# Altium footprint library Headers.PcbLib: 91 footprints (part 2 of 6)
Each footprint in its own frame and in the unit in brackets; x right, y up, seen from the top. Pads: shape width x height; smd on the part's side, far side on the other; paste and mask are expansions set on the pad; w line width, h text height; cw(c..) or ccw(c..) is an arc to the next point about the centre after c.
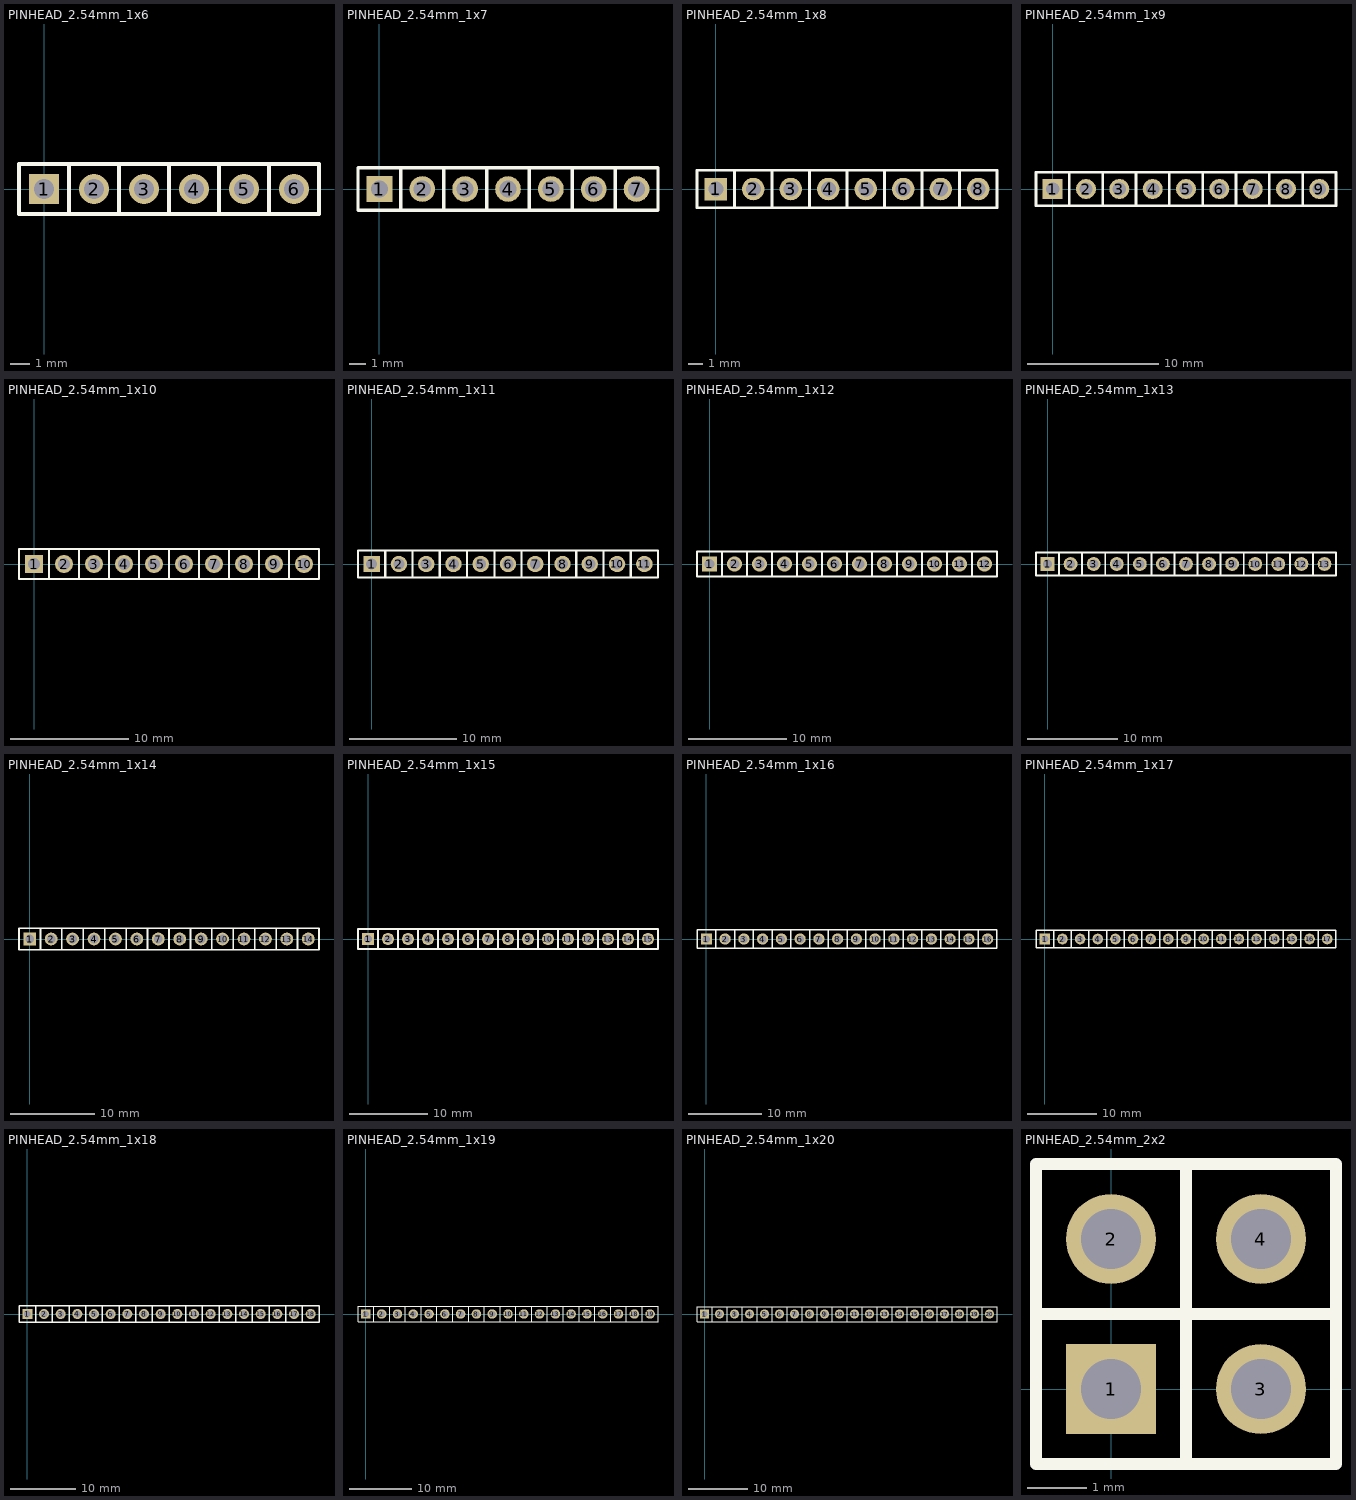
[diagram p1: the footprints below, top view; thin cyan lines are the x and y axes]

## PINHEAD_2.54mm_1x6 [mil]
pads (6):
  rect 60x60 hole 40: 1(0,0)
  round 60 hole 40: 2(100,0) 3(200,0) 4(300,0) 5(400,0) 6(500,0)
Top Overlay:
  lines w7.87: 50,-50 -50,-50 -50,50 50,50 ; 50,-50 50,50 ; 50,-50 50,50 ; 50,-50 150,-50 ; 50,50 150,50 ; 150,-50 150,50 ; 150,-50 250,-50 ; 150,-50 150,50 ; 150,50 250,50 ; 250,-50 250,50 ; 250,-50 250,50 ; 250,-50 350,-50 ; 250,50 350,50 ; 350,-50 350,50 ; 350,-50 450,-50 ; 350,-50 350,50 ; 350,50 450,50 ; 450,-50 450,50 ; 450,-50 450,50 ; 450,-50 550,-50 550,50 450,50
3D body "User Library-HDR1X1 Rectangular Straight.step": height 339.58, standoff -124.98, extent -53.14,-53.15 53.16,53.15
3D body "User Library-HDR1X1 Rectangular Straight.step": height 339.58, standoff -124.98, extent 46.86,-53.14 153.16,53.16
3D body "User Library-HDR1X1 Rectangular Straight.step": height 339.58, standoff -124.98, extent 146.86,-53.15 253.16,53.15
3D body "User Library-HDR1X1 Rectangular Straight.step": height 339.58, standoff -124.98, extent 246.86,-53.14 353.16,53.16
3D body "User Library-HDR1X1 Rectangular Straight.step": height 339.58, standoff -124.98, extent 346.86,-53.15 453.16,53.15
3D body "User Library-HDR1X1 Rectangular Straight.step": height 339.58, standoff -124.98, extent 446.86,-53.14 553.16,53.16

## PINHEAD_2.54mm_1x7 [mil]
pads (7):
  rect 60x60 hole 40: 1(0,0)
  round 60 hole 40: 2(100,0) 3(200,0) 4(300,0) 5(400,0) 6(500,0) 7(600,0)
Top Overlay:
  lines w7.87: 50,-50 -50,-50 -50,50 50,50 ; 50,-50 50,50 ; 50,-50 50,50 ; 50,-50 150,-50 ; 50,50 150,50 ; 150,-50 150,50 ; 150,-50 250,-50 ; 150,-50 150,50 ; 150,50 250,50 ; 250,-50 250,50 ; 250,-50 250,50 ; 250,-50 350,-50 ; 250,50 350,50 ; 350,-50 350,50 ; 350,-50 450,-50 ; 350,-50 350,50 ; 350,50 450,50 ; 450,-50 450,50 ; 450,-50 450,50 ; 450,-50 550,-50 ; 450,50 550,50 ; 550,-50 650,-50 650,50 550,50 ; 550,-50 550,50 ; 550,-50 550,50
3D body "User Library-HDR1X1 Rectangular Straight.step": height 339.58, standoff -124.98, extent 546.86,-53.15 653.16,53.15
3D body "User Library-HDR1X1 Rectangular Straight.step": height 339.58, standoff -124.98, extent -53.14,-53.15 53.16,53.15
3D body "User Library-HDR1X1 Rectangular Straight.step": height 339.58, standoff -124.98, extent 46.86,-53.14 153.16,53.16
3D body "User Library-HDR1X1 Rectangular Straight.step": height 339.58, standoff -124.98, extent 146.86,-53.15 253.16,53.15
3D body "User Library-HDR1X1 Rectangular Straight.step": height 339.58, standoff -124.98, extent 246.86,-53.14 353.16,53.16
3D body "User Library-HDR1X1 Rectangular Straight.step": height 339.58, standoff -124.98, extent 346.86,-53.15 453.16,53.15
3D body "User Library-HDR1X1 Rectangular Straight.step": height 339.58, standoff -124.98, extent 446.86,-53.14 553.16,53.16

## PINHEAD_2.54mm_1x8 [mil]
pads (8):
  rect 60x60 hole 40: 1(0,0)
  round 60 hole 40: 2(100,0) 3(200,0) 4(300,0) 5(400,0) 6(500,0) 7(600,0) 8(700,0)
Top Overlay:
  lines w7.87: 50,-50 150,-50 ; 50,-50 50,50 ; 50,-50 50,50 ; 50,-50 -50,-50 -50,50 50,50 ; 50,50 150,50 ; 150,-50 150,50 ; 150,-50 250,-50 ; 150,-50 150,50 ; 150,50 250,50 ; 250,-50 350,-50 ; 250,-50 250,50 ; 250,-50 250,50 ; 250,50 350,50 ; 350,-50 350,50 ; 350,-50 450,-50 ; 350,-50 350,50 ; 350,50 450,50 ; 450,-50 550,-50 ; 450,-50 450,50 ; 450,-50 450,50 ; 450,50 550,50 ; 550,-50 550,50 ; 550,-50 650,-50 ; 550,-50 550,50 ; 550,50 650,50 ; 650,-50 750,-50 750,50 650,50 ; 650,-50 650,50 ; 650,-50 650,50
3D body "User Library-HDR1X1 Rectangular Straight.step": height 339.58, standoff -124.98, extent 646.86,-53.14 753.16,53.16
3D body "User Library-HDR1X1 Rectangular Straight.step": height 339.58, standoff -124.98, extent 546.86,-53.15 653.16,53.15
3D body "User Library-HDR1X1 Rectangular Straight.step": height 339.58, standoff -124.98, extent 446.86,-53.14 553.16,53.16
3D body "User Library-HDR1X1 Rectangular Straight.step": height 339.58, standoff -124.98, extent 346.86,-53.15 453.16,53.15
3D body "User Library-HDR1X1 Rectangular Straight.step": height 339.58, standoff -124.98, extent 246.86,-53.14 353.16,53.16
3D body "User Library-HDR1X1 Rectangular Straight.step": height 339.58, standoff -124.98, extent 146.86,-53.15 253.16,53.15
3D body "User Library-HDR1X1 Rectangular Straight.step": height 339.58, standoff -124.98, extent 46.86,-53.14 153.16,53.16
3D body "User Library-HDR1X1 Rectangular Straight.step": height 339.58, standoff -124.98, extent -53.14,-53.15 53.16,53.15

## PINHEAD_2.54mm_1x9 [mil]
pads (9):
  rect 60x60 hole 40: 1(0,0)
  round 60 hole 40: 2(100,0) 3(200,0) 4(300,0) 5(400,0) 6(500,0) 7(600,0) 8(700,0) 9(800,0)
Top Overlay:
  lines w7.87: 50,-50 -50,-50 -50,50 50,50 ; 50,-50 50,50 ; 50,-50 50,50 ; 50,-50 150,-50 ; 50,50 150,50 ; 150,-50 150,50 ; 150,-50 250,-50 ; 150,-50 150,50 ; 150,50 250,50 ; 250,-50 250,50 ; 250,-50 250,50 ; 250,-50 350,-50 ; 250,50 350,50 ; 350,-50 350,50 ; 350,-50 450,-50 ; 350,-50 350,50 ; 350,50 450,50 ; 450,-50 450,50 ; 450,-50 450,50 ; 450,-50 550,-50 ; 450,50 550,50 ; 550,-50 550,50 ; 550,-50 650,-50 ; 550,-50 550,50 ; 550,50 650,50 ; 650,-50 650,50 ; 650,-50 650,50 ; 650,-50 750,-50 ; 650,50 750,50 ; 750,-50 750,50 ; 750,-50 750,50 ; 750,-50 850,-50 850,50 750,50
3D body "User Library-HDR1X1 Rectangular Straight.step": height 339.58, standoff -124.98, extent -53.14,-53.15 53.16,53.15
3D body "User Library-HDR1X1 Rectangular Straight.step": height 339.58, standoff -124.98, extent 46.86,-53.14 153.16,53.16
3D body "User Library-HDR1X1 Rectangular Straight.step": height 339.58, standoff -124.98, extent 146.86,-53.15 253.16,53.15
3D body "User Library-HDR1X1 Rectangular Straight.step": height 339.58, standoff -124.98, extent 246.86,-53.14 353.16,53.16
3D body "User Library-HDR1X1 Rectangular Straight.step": height 339.58, standoff -124.98, extent 346.86,-53.15 453.16,53.15
3D body "User Library-HDR1X1 Rectangular Straight.step": height 339.58, standoff -124.98, extent 446.86,-53.14 553.16,53.16
3D body "User Library-HDR1X1 Rectangular Straight.step": height 339.58, standoff -124.98, extent 546.86,-53.15 653.16,53.15
3D body "User Library-HDR1X1 Rectangular Straight.step": height 339.58, standoff -124.98, extent 646.86,-53.14 753.16,53.16
3D body "User Library-HDR1X1 Rectangular Straight.step": height 339.58, standoff -124.98, extent 746.86,-53.15 853.16,53.15

## PINHEAD_2.54mm_1x10 [mil]
pads (10):
  rect 60x60 hole 40: 1(0,0)
  round 60 hole 40: 2(100,0) 3(200,0) 4(300,0) 5(400,0) 6(500,0) 7(600,0) 8(700,0) 9(800,0) 10(900,0)
Top Overlay:
  lines w7.87: 50,-50 -50,-50 -50,50 50,50 ; 50,-50 50,50 ; 50,-50 50,50 ; 50,-50 150,-50 ; 50,50 150,50 ; 150,-50 150,50 ; 150,-50 250,-50 ; 150,-50 150,50 ; 150,50 250,50 ; 250,-50 250,50 ; 250,-50 250,50 ; 250,-50 350,-50 ; 250,50 350,50 ; 350,-50 350,50 ; 350,-50 450,-50 ; 350,-50 350,50 ; 350,50 450,50 ; 450,-50 450,50 ; 450,-50 450,50 ; 450,-50 550,-50 ; 450,50 550,50 ; 550,-50 550,50 ; 550,-50 650,-50 ; 550,-50 550,50 ; 550,50 650,50 ; 650,-50 650,50 ; 650,-50 650,50 ; 650,-50 750,-50 ; 650,50 750,50 ; 750,-50 750,50 ; 750,-50 850,-50 ; 750,-50 750,50 ; 750,50 850,50 ; 850,-50 850,50 ; 850,-50 850,50 ; 850,-50 950,-50 950,50 850,50
3D body "User Library-HDR1X1 Rectangular Straight.step": height 339.58, standoff -124.98, extent -53.14,-53.15 53.16,53.15
3D body "User Library-HDR1X1 Rectangular Straight.step": height 339.58, standoff -124.98, extent 46.86,-53.14 153.16,53.16
3D body "User Library-HDR1X1 Rectangular Straight.step": height 339.58, standoff -124.98, extent 146.86,-53.15 253.16,53.15
3D body "User Library-HDR1X1 Rectangular Straight.step": height 339.58, standoff -124.98, extent 246.86,-53.14 353.16,53.16
3D body "User Library-HDR1X1 Rectangular Straight.step": height 339.58, standoff -124.98, extent 346.86,-53.15 453.16,53.15
3D body "User Library-HDR1X1 Rectangular Straight.step": height 339.58, standoff -124.98, extent 446.86,-53.14 553.16,53.16
3D body "User Library-HDR1X1 Rectangular Straight.step": height 339.58, standoff -124.98, extent 546.86,-53.15 653.16,53.15
3D body "User Library-HDR1X1 Rectangular Straight.step": height 339.58, standoff -124.98, extent 646.86,-53.14 753.16,53.16
3D body "User Library-HDR1X1 Rectangular Straight.step": height 339.58, standoff -124.98, extent 746.86,-53.15 853.16,53.15
3D body "User Library-HDR1X1 Rectangular Straight.step": height 339.58, standoff -124.98, extent 846.86,-53.14 953.16,53.16

## PINHEAD_2.54mm_1x11 [mil]
pads (11):
  rect 60x60 hole 40: 1(0,0)
  round 60 hole 40: 2(100,0) 3(200,0) 4(300,0) 5(400,0) 6(500,0) 7(600,0) 8(700,0) 9(800,0) 10(900,0) 11(1000,0)
Top Overlay:
  lines w7.87: 50,-50 150,-50 ; 50,-50 50,50 ; 50,-50 50,50 ; 50,-50 -50,-50 -50,50 50,50 ; 50,50 150,50 ; 150,-50 150,50 ; 150,-50 250,-50 ; 150,-50 150,50 ; 150,50 250,50 ; 250,-50 350,-50 ; 250,-50 250,50 ; 250,-50 250,50 ; 250,50 350,50 ; 350,-50 350,50 ; 350,-50 450,-50 ; 350,-50 350,50 ; 350,50 450,50 ; 450,-50 550,-50 ; 450,-50 450,50 ; 450,-50 450,50 ; 450,50 550,50 ; 550,-50 550,50 ; 550,-50 650,-50 ; 550,-50 550,50 ; 550,50 650,50 ; 650,-50 750,-50 ; 650,-50 650,50 ; 650,-50 650,50 ; 650,50 750,50 ; 750,-50 750,50 ; 750,-50 850,-50 ; 750,-50 750,50 ; 750,50 850,50 ; 850,-50 950,-50 ; 850,-50 850,50 ; 850,-50 850,50 ; 850,50 950,50 ; 950,-50 1050,-50 1050,50 950,50 ; 950,-50 950,50 ; 950,-50 950,50
3D body "User Library-HDR1X1 Rectangular Straight.step": height 339.58, standoff -124.98, extent 946.86,-53.15 1053.16,53.15
3D body "User Library-HDR1X1 Rectangular Straight.step": height 339.58, standoff -124.98, extent 846.86,-53.14 953.16,53.16
3D body "User Library-HDR1X1 Rectangular Straight.step": height 339.58, standoff -124.98, extent 746.86,-53.14 853.16,53.16
3D body "User Library-HDR1X1 Rectangular Straight.step": height 339.58, standoff -124.98, extent 646.86,-53.14 753.16,53.16
3D body "User Library-HDR1X1 Rectangular Straight.step": height 339.58, standoff -124.98, extent 546.86,-53.14 653.16,53.16
3D body "User Library-HDR1X1 Rectangular Straight.step": height 339.58, standoff -124.98, extent 446.86,-53.14 553.16,53.16
3D body "User Library-HDR1X1 Rectangular Straight.step": height 339.58, standoff -124.98, extent 346.86,-53.14 453.16,53.16
3D body "User Library-HDR1X1 Rectangular Straight.step": height 339.58, standoff -124.98, extent 246.86,-53.14 353.16,53.16
3D body "User Library-HDR1X1 Rectangular Straight.step": height 339.58, standoff -124.98, extent 146.86,-53.14 253.16,53.16
3D body "User Library-HDR1X1 Rectangular Straight.step": height 339.58, standoff -124.98, extent 46.86,-53.14 153.16,53.16
3D body "User Library-HDR1X1 Rectangular Straight.step": height 339.58, standoff -124.98, extent -53.14,-53.14 53.16,53.16

## PINHEAD_2.54mm_1x12 [mil]
pads (12):
  rect 60x60 hole 40: 1(0,0)
  round 60 hole 40: 2(100,0) 3(200,0) 4(300,0) 5(400,0) 6(500,0) 7(600,0) 8(700,0) 9(800,0) 10(900,0) 11(1000,0) 12(1100,0)
Top Overlay:
  lines w7.87: 50,-50 150,-50 ; 50,-50 50,50 ; 50,-50 50,50 ; 50,-50 -50,-50 -50,50 50,50 ; 50,50 150,50 ; 150,-50 150,50 ; 150,-50 250,-50 ; 150,-50 150,50 ; 150,50 250,50 ; 250,-50 350,-50 ; 250,-50 250,50 ; 250,-50 250,50 ; 250,50 350,50 ; 350,-50 350,50 ; 350,-50 450,-50 ; 350,-50 350,50 ; 350,50 450,50 ; 450,-50 550,-50 ; 450,-50 450,50 ; 450,-50 450,50 ; 450,50 550,50 ; 550,-50 550,50 ; 550,-50 650,-50 ; 550,-50 550,50 ; 550,50 650,50 ; 650,-50 750,-50 ; 650,-50 650,50 ; 650,-50 650,50 ; 650,50 750,50 ; 750,-50 750,50 ; 750,-50 850,-50 ; 750,-50 750,50 ; 750,50 850,50 ; 850,-50 950,-50 ; 850,-50 850,50 ; 850,-50 850,50 ; 850,50 950,50 ; 950,-50 1050,-50 ; 950,-50 950,50 ; 950,-50 950,50 ; 950,50 1050,50 ; 1050,-50 1150,-50 1150,50 1050,50 ; 1050,-50 1050,50 ; 1050,-50 1050,50
3D body "User Library-HDR1X1 Rectangular Straight.step": height 339.58, standoff -124.98, extent 1046.86,-53.15 1153.16,53.15
3D body "User Library-HDR1X1 Rectangular Straight.step": height 339.58, standoff -124.98, extent 946.86,-53.15 1053.16,53.15
3D body "User Library-HDR1X1 Rectangular Straight.step": height 339.58, standoff -124.98, extent 846.86,-53.14 953.16,53.16
3D body "User Library-HDR1X1 Rectangular Straight.step": height 339.58, standoff -124.98, extent 746.86,-53.14 853.16,53.16
3D body "User Library-HDR1X1 Rectangular Straight.step": height 339.58, standoff -124.98, extent 646.86,-53.14 753.16,53.16
3D body "User Library-HDR1X1 Rectangular Straight.step": height 339.58, standoff -124.98, extent 546.86,-53.14 653.16,53.16
3D body "User Library-HDR1X1 Rectangular Straight.step": height 339.58, standoff -124.98, extent 446.86,-53.14 553.16,53.16
3D body "User Library-HDR1X1 Rectangular Straight.step": height 339.58, standoff -124.98, extent 346.86,-53.14 453.16,53.16
3D body "User Library-HDR1X1 Rectangular Straight.step": height 339.58, standoff -124.98, extent 246.86,-53.14 353.16,53.16
3D body "User Library-HDR1X1 Rectangular Straight.step": height 339.58, standoff -124.98, extent 146.86,-53.14 253.16,53.16
3D body "User Library-HDR1X1 Rectangular Straight.step": height 339.58, standoff -124.98, extent 46.86,-53.14 153.16,53.16
3D body "User Library-HDR1X1 Rectangular Straight.step": height 339.58, standoff -124.98, extent -53.14,-53.14 53.16,53.16

## PINHEAD_2.54mm_1x13 [mil]
pads (13):
  rect 60x60 hole 40: 1(0,0)
  round 60 hole 40: 2(100,0) 3(200,0) 4(300,0) 5(400,0) 6(500,0) 7(600,0) 8(700,0) 9(800,0) 10(900,0) 11(1000,0) 12(1100,0) 13(1200,0)
Top Overlay:
  lines w7.87: 50,-50 150,-50 ; 50,-50 50,50 ; 50,-50 50,50 ; 50,-50 -50,-50 -50,50 50,50 ; 50,50 150,50 ; 150,-50 150,50 ; 150,-50 250,-50 ; 150,-50 150,50 ; 150,50 250,50 ; 250,-50 350,-50 ; 250,-50 250,50 ; 250,-50 250,50 ; 250,50 350,50 ; 350,-50 350,50 ; 350,-50 450,-50 ; 350,-50 350,50 ; 350,50 450,50 ; 450,-50 550,-50 ; 450,-50 450,50 ; 450,-50 450,50 ; 450,50 550,50 ; 550,-50 550,50 ; 550,-50 650,-50 ; 550,-50 550,50 ; 550,50 650,50 ; 650,-50 750,-50 ; 650,-50 650,50 ; 650,-50 650,50 ; 650,50 750,50 ; 750,-50 750,50 ; 750,-50 850,-50 ; 750,-50 750,50 ; 750,50 850,50 ; 850,-50 950,-50 ; 850,-50 850,50 ; 850,-50 850,50 ; 850,50 950,50 ; 950,-50 1050,-50 ; 950,-50 950,50 ; 950,-50 950,50 ; 950,50 1050,50 ; 1050,-50 1150,-50 ; 1050,-50 1050,50 ; 1050,-50 1050,50 ; 1050,50 1150,50 ; 1150,-50 1250,-50 1250,50 1150,50 ; 1150,-50 1150,50 ; 1150,-50 1150,50
3D body "User Library-HDR1X1 Rectangular Straight.step": height 339.58, standoff -124.98, extent 1146.86,-53.15 1253.16,53.15
3D body "User Library-HDR1X1 Rectangular Straight.step": height 339.58, standoff -124.98, extent 1046.86,-53.15 1153.16,53.15
3D body "User Library-HDR1X1 Rectangular Straight.step": height 339.58, standoff -124.98, extent 946.86,-53.15 1053.16,53.15
3D body "User Library-HDR1X1 Rectangular Straight.step": height 339.58, standoff -124.98, extent 846.86,-53.14 953.16,53.16
3D body "User Library-HDR1X1 Rectangular Straight.step": height 339.58, standoff -124.98, extent 746.86,-53.14 853.16,53.16
3D body "User Library-HDR1X1 Rectangular Straight.step": height 339.58, standoff -124.98, extent 646.86,-53.14 753.16,53.16
3D body "User Library-HDR1X1 Rectangular Straight.step": height 339.58, standoff -124.98, extent 546.86,-53.14 653.16,53.16
3D body "User Library-HDR1X1 Rectangular Straight.step": height 339.58, standoff -124.98, extent 446.86,-53.14 553.16,53.16
3D body "User Library-HDR1X1 Rectangular Straight.step": height 339.58, standoff -124.98, extent 346.86,-53.14 453.16,53.16
3D body "User Library-HDR1X1 Rectangular Straight.step": height 339.58, standoff -124.98, extent 246.86,-53.14 353.16,53.16
3D body "User Library-HDR1X1 Rectangular Straight.step": height 339.58, standoff -124.98, extent 146.86,-53.14 253.16,53.16
3D body "User Library-HDR1X1 Rectangular Straight.step": height 339.58, standoff -124.98, extent 46.86,-53.14 153.16,53.16
3D body "User Library-HDR1X1 Rectangular Straight.step": height 339.58, standoff -124.98, extent -53.14,-53.14 53.16,53.16

## PINHEAD_2.54mm_1x14 [mil]
pads (14):
  rect 60x60 hole 40: 1(0,0)
  round 60 hole 40: 2(100,0) 3(200,0) 4(300,0) 5(400,0) 6(500,0) 7(600,0) 8(700,0) 9(800,0) 10(900,0) 11(1000,0) 12(1100,0) 13(1200,0) 14(1300,0)
Top Overlay:
  lines w7.87: 50,-50 150,-50 ; 50,-50 50,50 ; 50,-50 50,50 ; 50,-50 -50,-50 -50,50 50,50 ; 50,50 150,50 ; 150,-50 150,50 ; 150,-50 250,-50 ; 150,-50 150,50 ; 150,50 250,50 ; 250,-50 350,-50 ; 250,-50 250,50 ; 250,-50 250,50 ; 250,50 350,50 ; 350,-50 350,50 ; 350,-50 450,-50 ; 350,-50 350,50 ; 350,50 450,50 ; 450,-50 550,-50 ; 450,-50 450,50 ; 450,-50 450,50 ; 450,50 550,50 ; 550,-50 550,50 ; 550,-50 650,-50 ; 550,-50 550,50 ; 550,50 650,50 ; 650,-50 750,-50 ; 650,-50 650,50 ; 650,-50 650,50 ; 650,50 750,50 ; 750,-50 750,50 ; 750,-50 850,-50 ; 750,-50 750,50 ; 750,50 850,50 ; 850,-50 950,-50 ; 850,-50 850,50 ; 850,-50 850,50 ; 850,50 950,50 ; 950,-50 1050,-50 ; 950,-50 950,50 ; 950,-50 950,50 ; 950,50 1050,50 ; 1050,-50 1150,-50 ; 1050,-50 1050,50 ; 1050,-50 1050,50 ; 1050,50 1150,50 ; 1150,-50 1250,-50 ; 1150,-50 1150,50 ; 1150,-50 1150,50 ; 1150,50 1250,50 ; 1250,-50 1350,-50 1350,50 1250,50 ; 1250,-50 1250,50 ; 1250,-50 1250,50
3D body "User Library-HDR1X1 Rectangular Straight.step": height 339.58, standoff -124.98, extent 1246.86,-53.15 1353.16,53.15
3D body "User Library-HDR1X1 Rectangular Straight.step": height 339.58, standoff -124.98, extent 1146.86,-53.15 1253.16,53.15
3D body "User Library-HDR1X1 Rectangular Straight.step": height 339.58, standoff -124.98, extent 1046.86,-53.15 1153.16,53.15
3D body "User Library-HDR1X1 Rectangular Straight.step": height 339.58, standoff -124.98, extent 946.86,-53.15 1053.16,53.15
3D body "User Library-HDR1X1 Rectangular Straight.step": height 339.58, standoff -124.98, extent 846.86,-53.14 953.16,53.16
3D body "User Library-HDR1X1 Rectangular Straight.step": height 339.58, standoff -124.98, extent 746.86,-53.14 853.16,53.16
3D body "User Library-HDR1X1 Rectangular Straight.step": height 339.58, standoff -124.98, extent 646.86,-53.14 753.16,53.16
3D body "User Library-HDR1X1 Rectangular Straight.step": height 339.58, standoff -124.98, extent 546.86,-53.14 653.16,53.16
3D body "User Library-HDR1X1 Rectangular Straight.step": height 339.58, standoff -124.98, extent 446.86,-53.14 553.16,53.16
3D body "User Library-HDR1X1 Rectangular Straight.step": height 339.58, standoff -124.98, extent 346.86,-53.14 453.16,53.16
3D body "User Library-HDR1X1 Rectangular Straight.step": height 339.58, standoff -124.98, extent 246.86,-53.14 353.16,53.16
3D body "User Library-HDR1X1 Rectangular Straight.step": height 339.58, standoff -124.98, extent 146.86,-53.14 253.16,53.16
3D body "User Library-HDR1X1 Rectangular Straight.step": height 339.58, standoff -124.98, extent 46.86,-53.14 153.16,53.16
3D body "User Library-HDR1X1 Rectangular Straight.step": height 339.58, standoff -124.98, extent -53.14,-53.14 53.16,53.16

## PINHEAD_2.54mm_1x15 [mil]
pads (15):
  rect 60x60 hole 40: 1(0,0)
  round 60 hole 40: 2(100,0) 3(200,0) 4(300,0) 5(400,0) 6(500,0) 7(600,0) 8(700,0) 9(800,0) 10(900,0) 11(1000,0) 12(1100,0) 13(1200,0) 14(1300,0) 15(1400,0)
Top Overlay:
  lines w7.87: 50,-50 -50,-50 -50,50 50,50 ; 50,-50 50,50 ; 50,-50 50,50 ; 50,-50 150,-50 ; 50,50 150,50 ; 150,-50 150,50 ; 150,-50 250,-50 ; 150,-50 150,50 ; 150,50 250,50 ; 250,-50 250,50 ; 250,-50 250,50 ; 250,-50 350,-50 ; 250,50 350,50 ; 350,-50 350,50 ; 350,-50 450,-50 ; 350,-50 350,50 ; 350,50 450,50 ; 450,-50 450,50 ; 450,-50 450,50 ; 450,-50 550,-50 ; 450,50 550,50 ; 550,-50 550,50 ; 550,-50 650,-50 ; 550,-50 550,50 ; 550,50 650,50 ; 650,-50 650,50 ; 650,-50 650,50 ; 650,-50 750,-50 ; 650,50 750,50 ; 750,-50 750,50 ; 750,-50 850,-50 ; 750,-50 750,50 ; 750,50 850,50 ; 850,-50 850,50 ; 850,-50 850,50 ; 850,-50 950,-50 ; 850,50 950,50 ; 950,-50 950,50 ; 950,-50 950,50 ; 950,-50 1050,-50 ; 950,50 1050,50 ; 1050,-50 1050,50 ; 1050,-50 1050,50 ; 1050,-50 1150,-50 ; 1050,50 1150,50 ; 1150,-50 1150,50 ; 1150,-50 1150,50 ; 1150,-50 1250,-50 ; 1150,50 1250,50 ; 1250,-50 1250,50 ; 1250,-50 1250,50 ; 1250,-50 1350,-50 ; 1250,50 1350,50 ; 1350,-50 1350,50 ; 1350,-50 1350,50 ; 1350,-50 1450,-50 1450,50 1350,50
3D body "User Library-HDR1X1 Rectangular Straight.step": height 339.58, standoff -124.98, extent -53.14,-53.14 53.16,53.16
3D body "User Library-HDR1X1 Rectangular Straight.step": height 339.58, standoff -124.98, extent 46.86,-53.14 153.16,53.16
3D body "User Library-HDR1X1 Rectangular Straight.step": height 339.58, standoff -124.98, extent 146.86,-53.14 253.16,53.16
3D body "User Library-HDR1X1 Rectangular Straight.step": height 339.58, standoff -124.98, extent 246.86,-53.14 353.16,53.16
3D body "User Library-HDR1X1 Rectangular Straight.step": height 339.58, standoff -124.98, extent 346.86,-53.14 453.16,53.16
3D body "User Library-HDR1X1 Rectangular Straight.step": height 339.58, standoff -124.98, extent 446.86,-53.14 553.16,53.16
3D body "User Library-HDR1X1 Rectangular Straight.step": height 339.58, standoff -124.98, extent 546.86,-53.14 653.16,53.16
3D body "User Library-HDR1X1 Rectangular Straight.step": height 339.58, standoff -124.98, extent 646.86,-53.14 753.16,53.16
3D body "User Library-HDR1X1 Rectangular Straight.step": height 339.58, standoff -124.98, extent 746.86,-53.14 853.16,53.16
3D body "User Library-HDR1X1 Rectangular Straight.step": height 339.58, standoff -124.98, extent 846.86,-53.14 953.16,53.16
3D body "User Library-HDR1X1 Rectangular Straight.step": height 339.58, standoff -124.98, extent 946.86,-53.15 1053.16,53.15
3D body "User Library-HDR1X1 Rectangular Straight.step": height 339.58, standoff -124.98, extent 1046.86,-53.15 1153.16,53.15
3D body "User Library-HDR1X1 Rectangular Straight.step": height 339.58, standoff -124.98, extent 1146.86,-53.15 1253.16,53.15
3D body "User Library-HDR1X1 Rectangular Straight.step": height 339.58, standoff -124.98, extent 1246.86,-53.15 1353.16,53.15
3D body "User Library-HDR1X1 Rectangular Straight.step": height 339.58, standoff -124.98, extent 1346.86,-53.15 1453.16,53.15

## PINHEAD_2.54mm_1x16 [mil]
pads (16):
  rect 60x60 hole 40: 1(0,0)
  round 60 hole 40: 2(100,0) 3(200,0) 4(300,0) 5(400,0) 6(500,0) 7(600,0) 8(700,0) 9(800,0) 10(900,0) 11(1000,0) 12(1100,0) 13(1200,0) 14(1300,0) 15(1400,0) 16(1500,0)
Top Overlay:
  lines w7.87: 50,-50 -50,-50 -50,50 50,50 ; 50,-50 50,50 ; 50,-50 50,50 ; 50,-50 150,-50 ; 50,50 150,50 ; 150,-50 150,50 ; 150,-50 250,-50 ; 150,-50 150,50 ; 150,50 250,50 ; 250,-50 250,50 ; 250,-50 250,50 ; 250,-50 350,-50 ; 250,50 350,50 ; 350,-50 350,50 ; 350,-50 450,-50 ; 350,-50 350,50 ; 350,50 450,50 ; 450,-50 450,50 ; 450,-50 450,50 ; 450,-50 550,-50 ; 450,50 550,50 ; 550,-50 550,50 ; 550,-50 650,-50 ; 550,-50 550,50 ; 550,50 650,50 ; 650,-50 650,50 ; 650,-50 650,50 ; 650,-50 750,-50 ; 650,50 750,50 ; 750,-50 750,50 ; 750,-50 850,-50 ; 750,-50 750,50 ; 750,50 850,50 ; 850,-50 850,50 ; 850,-50 850,50 ; 850,-50 950,-50 ; 850,50 950,50 ; 950,-50 950,50 ; 950,-50 950,50 ; 950,-50 1050,-50 ; 950,50 1050,50 ; 1050,-50 1050,50 ; 1050,-50 1050,50 ; 1050,-50 1150,-50 ; 1050,50 1150,50 ; 1150,-50 1150,50 ; 1150,-50 1150,50 ; 1150,-50 1250,-50 ; 1150,50 1250,50 ; 1250,-50 1250,50 ; 1250,-50 1250,50 ; 1250,-50 1350,-50 ; 1250,50 1350,50 ; 1350,-50 1350,50 ; 1350,-50 1350,50 ; 1350,-50 1450,-50 ; 1350,50 1450,50 ; 1450,-50 1450,50 ; 1450,-50 1450,50 ; 1450,-50 1550,-50 1550,50 1450,50
3D body "User Library-HDR1X1 Rectangular Straight.step": height 339.58, standoff -124.98, extent -53.14,-53.14 53.16,53.16
3D body "User Library-HDR1X1 Rectangular Straight.step": height 339.58, standoff -124.98, extent 46.86,-53.14 153.16,53.16
3D body "User Library-HDR1X1 Rectangular Straight.step": height 339.58, standoff -124.98, extent 146.86,-53.14 253.16,53.16
3D body "User Library-HDR1X1 Rectangular Straight.step": height 339.58, standoff -124.98, extent 246.86,-53.14 353.16,53.16
3D body "User Library-HDR1X1 Rectangular Straight.step": height 339.58, standoff -124.98, extent 346.86,-53.14 453.16,53.16
3D body "User Library-HDR1X1 Rectangular Straight.step": height 339.58, standoff -124.98, extent 446.86,-53.14 553.16,53.16
3D body "User Library-HDR1X1 Rectangular Straight.step": height 339.58, standoff -124.98, extent 546.86,-53.14 653.16,53.16
3D body "User Library-HDR1X1 Rectangular Straight.step": height 339.58, standoff -124.98, extent 646.86,-53.14 753.16,53.16
3D body "User Library-HDR1X1 Rectangular Straight.step": height 339.58, standoff -124.98, extent 746.86,-53.14 853.16,53.16
3D body "User Library-HDR1X1 Rectangular Straight.step": height 339.58, standoff -124.98, extent 846.86,-53.14 953.16,53.16
3D body "User Library-HDR1X1 Rectangular Straight.step": height 339.58, standoff -124.98, extent 946.86,-53.15 1053.16,53.15
3D body "User Library-HDR1X1 Rectangular Straight.step": height 339.58, standoff -124.98, extent 1046.86,-53.15 1153.16,53.15
3D body "User Library-HDR1X1 Rectangular Straight.step": height 339.58, standoff -124.98, extent 1146.86,-53.15 1253.16,53.15
3D body "User Library-HDR1X1 Rectangular Straight.step": height 339.58, standoff -124.98, extent 1246.86,-53.15 1353.16,53.15
3D body "User Library-HDR1X1 Rectangular Straight.step": height 339.58, standoff -124.98, extent 1346.86,-53.15 1453.16,53.15
3D body "User Library-HDR1X1 Rectangular Straight.step": height 339.58, standoff -124.98, extent 1446.86,-53.15 1553.16,53.15

## PINHEAD_2.54mm_1x17 [mil]
pads (17):
  rect 60x60 hole 40: 1(0,0)
  round 60 hole 40: 2(100,0) 3(200,0) 4(300,0) 5(400,0) 6(500,0) 7(600,0) 8(700,0) 9(800,0) 10(900,0) 11(1000,0) 12(1100,0) 13(1200,0) 14(1300,0) 15(1400,0) 16(1500,0) 17(1600,0)
Top Overlay:
  lines w7.87: 50,-50 -50,-50 -50,50 50,50 ; 50,-50 50,50 ; 50,-50 50,50 ; 50,-50 150,-50 ; 50,50 150,50 ; 150,-50 150,50 ; 150,-50 250,-50 ; 150,-50 150,50 ; 150,50 250,50 ; 250,-50 250,50 ; 250,-50 250,50 ; 250,-50 350,-50 ; 250,50 350,50 ; 350,-50 350,50 ; 350,-50 450,-50 ; 350,-50 350,50 ; 350,50 450,50 ; 450,-50 450,50 ; 450,-50 450,50 ; 450,-50 550,-50 ; 450,50 550,50 ; 550,-50 550,50 ; 550,-50 650,-50 ; 550,-50 550,50 ; 550,50 650,50 ; 650,-50 650,50 ; 650,-50 650,50 ; 650,-50 750,-50 ; 650,50 750,50 ; 750,-50 750,50 ; 750,-50 850,-50 ; 750,-50 750,50 ; 750,50 850,50 ; 850,-50 850,50 ; 850,-50 850,50 ; 850,-50 950,-50 ; 850,50 950,50 ; 950,-50 950,50 ; 950,-50 950,50 ; 950,-50 1050,-50 ; 950,50 1050,50 ; 1050,-50 1050,50 ; 1050,-50 1050,50 ; 1050,-50 1150,-50 ; 1050,50 1150,50 ; 1150,-50 1150,50 ; 1150,-50 1150,50 ; 1150,-50 1250,-50 ; 1150,50 1250,50 ; 1250,-50 1250,50 ; 1250,-50 1250,50 ; 1250,-50 1350,-50 ; 1250,50 1350,50 ; 1350,-50 1350,50 ; 1350,-50 1350,50 ; 1350,-50 1450,-50 ; 1350,50 1450,50 ; 1450,-50 1450,50 ; 1450,-50 1450,50 ; 1450,-50 1550,-50 ; 1450,50 1550,50 ; 1550,-50 1550,50 ; 1550,-50 1550,50 ; 1550,-50 1650,-50 1650,50 1550,50
3D body "User Library-HDR1X1 Rectangular Straight.step": height 339.58, standoff -124.98, extent -53.14,-53.14 53.16,53.16
3D body "User Library-HDR1X1 Rectangular Straight.step": height 339.58, standoff -124.98, extent 46.86,-53.14 153.16,53.16
3D body "User Library-HDR1X1 Rectangular Straight.step": height 339.58, standoff -124.98, extent 146.86,-53.14 253.16,53.16
3D body "User Library-HDR1X1 Rectangular Straight.step": height 339.58, standoff -124.98, extent 246.86,-53.14 353.16,53.16
3D body "User Library-HDR1X1 Rectangular Straight.step": height 339.58, standoff -124.98, extent 346.86,-53.14 453.16,53.16
3D body "User Library-HDR1X1 Rectangular Straight.step": height 339.58, standoff -124.98, extent 446.86,-53.14 553.16,53.16
3D body "User Library-HDR1X1 Rectangular Straight.step": height 339.58, standoff -124.98, extent 546.86,-53.14 653.16,53.16
3D body "User Library-HDR1X1 Rectangular Straight.step": height 339.58, standoff -124.98, extent 646.86,-53.14 753.16,53.16
3D body "User Library-HDR1X1 Rectangular Straight.step": height 339.58, standoff -124.98, extent 746.86,-53.14 853.16,53.16
3D body "User Library-HDR1X1 Rectangular Straight.step": height 339.58, standoff -124.98, extent 846.86,-53.14 953.16,53.16
3D body "User Library-HDR1X1 Rectangular Straight.step": height 339.58, standoff -124.98, extent 946.86,-53.15 1053.16,53.15
3D body "User Library-HDR1X1 Rectangular Straight.step": height 339.58, standoff -124.98, extent 1046.86,-53.15 1153.16,53.15
3D body "User Library-HDR1X1 Rectangular Straight.step": height 339.58, standoff -124.98, extent 1146.86,-53.15 1253.16,53.15
3D body "User Library-HDR1X1 Rectangular Straight.step": height 339.58, standoff -124.98, extent 1246.86,-53.15 1353.16,53.15
3D body "User Library-HDR1X1 Rectangular Straight.step": height 339.58, standoff -124.98, extent 1346.86,-53.15 1453.16,53.15
3D body "User Library-HDR1X1 Rectangular Straight.step": height 339.58, standoff -124.98, extent 1446.86,-53.15 1553.16,53.15
3D body "User Library-HDR1X1 Rectangular Straight.step": height 339.58, standoff -124.98, extent 1546.86,-53.15 1653.16,53.15

## PINHEAD_2.54mm_1x18 [mil]
pads (18):
  rect 60x60 hole 40: 1(0,0)
  round 60 hole 40: 2(100,0) 3(200,0) 4(300,0) 5(400,0) 6(500,0) 7(600,0) 8(700,0) 9(800,0) 10(900,0) 11(1000,0) 12(1100,0) 13(1200,0) 14(1300,0) 15(1400,0) 16(1500,0) 17(1600,0) 18(1700,0)
Top Overlay:
  lines w7.87: 50,-50 -50,-50 -50,50 50,50 ; 50,-50 50,50 ; 50,-50 50,50 ; 50,-50 150,-50 ; 50,50 150,50 ; 150,-50 150,50 ; 150,-50 250,-50 ; 150,-50 150,50 ; 150,50 250,50 ; 250,-50 250,50 ; 250,-50 250,50 ; 250,-50 350,-50 ; 250,50 350,50 ; 350,-50 350,50 ; 350,-50 450,-50 ; 350,-50 350,50 ; 350,50 450,50 ; 450,-50 450,50 ; 450,-50 450,50 ; 450,-50 550,-50 ; 450,50 550,50 ; 550,-50 550,50 ; 550,-50 650,-50 ; 550,-50 550,50 ; 550,50 650,50 ; 650,-50 650,50 ; 650,-50 650,50 ; 650,-50 750,-50 ; 650,50 750,50 ; 750,-50 750,50 ; 750,-50 850,-50 ; 750,-50 750,50 ; 750,50 850,50 ; 850,-50 850,50 ; 850,-50 850,50 ; 850,-50 950,-50 ; 850,50 950,50 ; 950,-50 950,50 ; 950,-50 950,50 ; 950,-50 1050,-50 ; 950,50 1050,50 ; 1050,-50 1050,50 ; 1050,-50 1050,50 ; 1050,-50 1150,-50 ; 1050,50 1150,50 ; 1150,-50 1150,50 ; 1150,-50 1150,50 ; 1150,-50 1250,-50 ; 1150,50 1250,50 ; 1250,-50 1250,50 ; 1250,-50 1250,50 ; 1250,-50 1350,-50 ; 1250,50 1350,50 ; 1350,-50 1350,50 ; 1350,-50 1350,50 ; 1350,-50 1450,-50 ; 1350,50 1450,50 ; 1450,-50 1450,50 ; 1450,-50 1450,50 ; 1450,-50 1550,-50 ; 1450,50 1550,50 ; 1550,-50 1550,50 ; 1550,-50 1550,50 ; 1550,-50 1650,-50 ; 1550,50 1650,50 ; 1650,-50 1650,50 ; 1650,-50 1650,50 ; 1650,-50 1750,-50 1750,50 1650,50
3D body "User Library-HDR1X1 Rectangular Straight.step": height 339.58, standoff -124.98, extent -53.14,-53.14 53.16,53.16
3D body "User Library-HDR1X1 Rectangular Straight.step": height 339.58, standoff -124.98, extent 46.86,-53.14 153.16,53.16
3D body "User Library-HDR1X1 Rectangular Straight.step": height 339.58, standoff -124.98, extent 146.86,-53.14 253.16,53.16
3D body "User Library-HDR1X1 Rectangular Straight.step": height 339.58, standoff -124.98, extent 246.86,-53.14 353.16,53.16
3D body "User Library-HDR1X1 Rectangular Straight.step": height 339.58, standoff -124.98, extent 346.86,-53.14 453.16,53.16
3D body "User Library-HDR1X1 Rectangular Straight.step": height 339.58, standoff -124.98, extent 446.86,-53.14 553.16,53.16
3D body "User Library-HDR1X1 Rectangular Straight.step": height 339.58, standoff -124.98, extent 546.86,-53.14 653.16,53.16
3D body "User Library-HDR1X1 Rectangular Straight.step": height 339.58, standoff -124.98, extent 646.86,-53.14 753.16,53.16
3D body "User Library-HDR1X1 Rectangular Straight.step": height 339.58, standoff -124.98, extent 746.86,-53.14 853.16,53.16
3D body "User Library-HDR1X1 Rectangular Straight.step": height 339.58, standoff -124.98, extent 846.86,-53.14 953.16,53.16
3D body "User Library-HDR1X1 Rectangular Straight.step": height 339.58, standoff -124.98, extent 946.86,-53.15 1053.16,53.15
3D body "User Library-HDR1X1 Rectangular Straight.step": height 339.58, standoff -124.98, extent 1046.86,-53.15 1153.16,53.15
3D body "User Library-HDR1X1 Rectangular Straight.step": height 339.58, standoff -124.98, extent 1146.86,-53.15 1253.16,53.15
3D body "User Library-HDR1X1 Rectangular Straight.step": height 339.58, standoff -124.98, extent 1246.86,-53.15 1353.16,53.15
3D body "User Library-HDR1X1 Rectangular Straight.step": height 339.58, standoff -124.98, extent 1346.86,-53.15 1453.16,53.15
3D body "User Library-HDR1X1 Rectangular Straight.step": height 339.58, standoff -124.98, extent 1446.86,-53.15 1553.16,53.15
3D body "User Library-HDR1X1 Rectangular Straight.step": height 339.58, standoff -124.98, extent 1546.86,-53.15 1653.16,53.15
3D body "User Library-HDR1X1 Rectangular Straight.step": height 339.58, standoff -124.98, extent 1646.86,-53.15 1753.16,53.15

## PINHEAD_2.54mm_1x19 [mil]
pads (19):
  rect 60x60 hole 40: 1(0,0)
  round 60 hole 40: 2(100,0) 3(200,0) 4(300,0) 5(400,0) 6(500,0) 7(600,0) 8(700,0) 9(800,0) 10(900,0) 11(1000,0) 12(1100,0) 13(1200,0) 14(1300,0) 15(1400,0) 16(1500,0) 17(1600,0) 18(1700,0) 19(1800,0)
Top Overlay:
  lines w7.87: 50,-50 -50,-50 -50,50 50,50 ; 50,-50 50,50 ; 50,-50 50,50 ; 50,-50 150,-50 ; 50,50 150,50 ; 150,-50 150,50 ; 150,-50 250,-50 ; 150,-50 150,50 ; 150,50 250,50 ; 250,-50 250,50 ; 250,-50 250,50 ; 250,-50 350,-50 ; 250,50 350,50 ; 350,-50 350,50 ; 350,-50 450,-50 ; 350,-50 350,50 ; 350,50 450,50 ; 450,-50 450,50 ; 450,-50 450,50 ; 450,-50 550,-50 ; 450,50 550,50 ; 550,-50 550,50 ; 550,-50 650,-50 ; 550,-50 550,50 ; 550,50 650,50 ; 650,-50 650,50 ; 650,-50 650,50 ; 650,-50 750,-50 ; 650,50 750,50 ; 750,-50 750,50 ; 750,-50 850,-50 ; 750,-50 750,50 ; 750,50 850,50 ; 850,-50 850,50 ; 850,-50 850,50 ; 850,-50 950,-50 ; 850,50 950,50 ; 950,-50 1050,-50 ; 950,-50 950,50 ; 950,-50 950,50 ; 950,50 1050,50 ; 1050,-50 1150,-50 ; 1050,-50 1050,50 ; 1050,-50 1050,50 ; 1050,50 1150,50 ; 1150,-50 1250,-50 ; 1150,-50 1150,50 ; 1150,-50 1150,50 ; 1150,50 1250,50 ; 1250,-50 1350,-50 ; 1250,-50 1250,50 ; 1250,-50 1250,50 ; 1250,50 1350,50 ; 1350,-50 1450,-50 ; 1350,-50 1350,50 ; 1350,-50 1350,50 ; 1350,50 1450,50 ; 1450,-50 1550,-50 ; 1450,-50 1450,50 ; 1450,-50 1450,50 ; 1450,50 1550,50 ; 1550,-50 1650,-50 ; 1550,-50 1550,50 ; 1550,-50 1550,50 ; 1550,50 1650,50 ; 1650,-50 1750,-50 ; 1650,-50 1650,50 ; 1650,-50 1650,50 ; 1650,50 1750,50 ; 1750,-50 1850,-50 1850,50 1750,50 ; 1750,-50 1750,50 ; 1750,-50 1750,50
3D body "User Library-HDR1X1 Rectangular Straight.step": height 339.58, standoff -124.98, extent 1746.86,-53.15 1853.16,53.15
3D body "User Library-HDR1X1 Rectangular Straight.step": height 339.58, standoff -124.98, extent 1646.86,-53.15 1753.16,53.15
3D body "User Library-HDR1X1 Rectangular Straight.step": height 339.58, standoff -124.98, extent 1546.86,-53.15 1653.16,53.15
3D body "User Library-HDR1X1 Rectangular Straight.step": height 339.58, standoff -124.98, extent 1446.86,-53.15 1553.16,53.15
3D body "User Library-HDR1X1 Rectangular Straight.step": height 339.58, standoff -124.98, extent 1346.86,-53.15 1453.16,53.15
3D body "User Library-HDR1X1 Rectangular Straight.step": height 339.58, standoff -124.98, extent 1246.86,-53.15 1353.16,53.15
3D body "User Library-HDR1X1 Rectangular Straight.step": height 339.58, standoff -124.98, extent 1146.86,-53.15 1253.16,53.15
3D body "User Library-HDR1X1 Rectangular Straight.step": height 339.58, standoff -124.98, extent 1046.86,-53.15 1153.16,53.15
3D body "User Library-HDR1X1 Rectangular Straight.step": height 339.58, standoff -124.98, extent 946.86,-53.15 1053.16,53.15
3D body "User Library-HDR1X1 Rectangular Straight.step": height 339.58, standoff -124.98, extent -53.14,-53.14 53.16,53.16
3D body "User Library-HDR1X1 Rectangular Straight.step": height 339.58, standoff -124.98, extent 46.86,-53.14 153.16,53.16
3D body "User Library-HDR1X1 Rectangular Straight.step": height 339.58, standoff -124.98, extent 146.86,-53.14 253.16,53.16
3D body "User Library-HDR1X1 Rectangular Straight.step": height 339.58, standoff -124.98, extent 246.86,-53.14 353.16,53.16
3D body "User Library-HDR1X1 Rectangular Straight.step": height 339.58, standoff -124.98, extent 346.86,-53.14 453.16,53.16
3D body "User Library-HDR1X1 Rectangular Straight.step": height 339.58, standoff -124.98, extent 446.86,-53.14 553.16,53.16
3D body "User Library-HDR1X1 Rectangular Straight.step": height 339.58, standoff -124.98, extent 546.86,-53.14 653.16,53.16
3D body "User Library-HDR1X1 Rectangular Straight.step": height 339.58, standoff -124.98, extent 646.86,-53.14 753.16,53.16
3D body "User Library-HDR1X1 Rectangular Straight.step": height 339.58, standoff -124.98, extent 746.86,-53.14 853.16,53.16
3D body "User Library-HDR1X1 Rectangular Straight.step": height 339.58, standoff -124.98, extent 846.86,-53.14 953.16,53.16

## PINHEAD_2.54mm_1x20 [mil]
pads (20):
  rect 60x60 hole 40: 1(0,0)
  round 60 hole 40: 2(100,0) 3(200,0) 4(300,0) 5(400,0) 6(500,0) 7(600,0) 8(700,0) 9(800,0) 10(900,0) 11(1000,0) 12(1100,0) 13(1200,0) 14(1300,0) 15(1400,0) 16(1500,0) 17(1600,0) 18(1700,0) 19(1800,0) 20(1900,0)
Top Overlay:
  lines w7.87: 50,-50 -50,-50 -50,50 50,50 ; 50,-50 50,50 ; 50,-50 50,50 ; 50,-50 150,-50 ; 50,50 150,50 ; 150,-50 150,50 ; 150,-50 250,-50 ; 150,-50 150,50 ; 150,50 250,50 ; 250,-50 250,50 ; 250,-50 250,50 ; 250,-50 350,-50 ; 250,50 350,50 ; 350,-50 350,50 ; 350,-50 450,-50 ; 350,-50 350,50 ; 350,50 450,50 ; 450,-50 450,50 ; 450,-50 450,50 ; 450,-50 550,-50 ; 450,50 550,50 ; 550,-50 550,50 ; 550,-50 650,-50 ; 550,-50 550,50 ; 550,50 650,50 ; 650,-50 650,50 ; 650,-50 650,50 ; 650,-50 750,-50 ; 650,50 750,50 ; 750,-50 750,50 ; 750,-50 850,-50 ; 750,-50 750,50 ; 750,50 850,50 ; 850,-50 850,50 ; 850,-50 850,50 ; 850,-50 950,-50 ; 850,50 950,50 ; 950,-50 1050,-50 ; 950,-50 950,50 ; 950,-50 950,50 ; 950,50 1050,50 ; 1050,-50 1050,50 ; 1050,-50 1050,50 ; 1050,-50 1150,-50 ; 1050,50 1150,50 ; 1150,-50 1150,50 ; 1150,-50 1250,-50 ; 1150,-50 1150,50 ; 1150,50 1250,50 ; 1250,-50 1250,50 ; 1250,-50 1250,50 ; 1250,-50 1350,-50 ; 1250,50 1350,50 ; 1350,-50 1350,50 ; 1350,-50 1450,-50 ; 1350,-50 1350,50 ; 1350,50 1450,50 ; 1450,-50 1450,50 ; 1450,-50 1450,50 ; 1450,-50 1550,-50 ; 1450,50 1550,50 ; 1550,-50 1550,50 ; 1550,-50 1650,-50 ; 1550,-50 1550,50 ; 1550,50 1650,50 ; 1650,-50 1650,50 ; 1650,-50 1650,50 ; 1650,-50 1750,-50 ; 1650,50 1750,50 ; 1750,-50 1750,50 ; 1750,-50 1850,-50 ; 1750,-50 1750,50 ; 1750,50 1850,50 ; 1850,-50 1850,50 ; 1850,-50 1850,50 ; 1850,-50 1950,-50 1950,50 1850,50
3D body "User Library-HDR1X1 Rectangular Straight.step": height 339.58, standoff -124.98, extent 946.86,-53.14 1053.16,53.16
3D body "User Library-HDR1X1 Rectangular Straight.step": height 339.58, standoff -124.98, extent 1046.86,-53.14 1153.16,53.16
3D body "User Library-HDR1X1 Rectangular Straight.step": height 339.58, standoff -124.98, extent 1146.86,-53.14 1253.16,53.16
3D body "User Library-HDR1X1 Rectangular Straight.step": height 339.58, standoff -124.98, extent 1246.86,-53.14 1353.16,53.16
3D body "User Library-HDR1X1 Rectangular Straight.step": height 339.58, standoff -124.98, extent 1346.86,-53.14 1453.16,53.16
3D body "User Library-HDR1X1 Rectangular Straight.step": height 339.58, standoff -124.98, extent 1446.86,-53.14 1553.16,53.16
3D body "User Library-HDR1X1 Rectangular Straight.step": height 339.58, standoff -124.98, extent 1546.86,-53.14 1653.16,53.16
3D body "User Library-HDR1X1 Rectangular Straight.step": height 339.58, standoff -124.98, extent 1646.86,-53.14 1753.16,53.16
3D body "User Library-HDR1X1 Rectangular Straight.step": height 339.58, standoff -124.98, extent 1746.86,-53.14 1853.16,53.16
3D body "User Library-HDR1X1 Rectangular Straight.step": height 339.58, standoff -124.98, extent 1846.86,-53.14 1953.16,53.16
3D body "User Library-HDR1X1 Rectangular Straight.step": height 339.58, standoff -124.98, extent -53.14,-53.14 53.16,53.16
3D body "User Library-HDR1X1 Rectangular Straight.step": height 339.58, standoff -124.98, extent 46.86,-53.14 153.16,53.16
3D body "User Library-HDR1X1 Rectangular Straight.step": height 339.58, standoff -124.98, extent 146.86,-53.14 253.16,53.16
3D body "User Library-HDR1X1 Rectangular Straight.step": height 339.58, standoff -124.98, extent 246.86,-53.14 353.16,53.16
3D body "User Library-HDR1X1 Rectangular Straight.step": height 339.58, standoff -124.98, extent 346.86,-53.14 453.16,53.16
3D body "User Library-HDR1X1 Rectangular Straight.step": height 339.58, standoff -124.98, extent 446.86,-53.14 553.16,53.16
3D body "User Library-HDR1X1 Rectangular Straight.step": height 339.58, standoff -124.98, extent 546.86,-53.14 653.16,53.16
3D body "User Library-HDR1X1 Rectangular Straight.step": height 339.58, standoff -124.98, extent 646.86,-53.14 753.16,53.16
3D body "User Library-HDR1X1 Rectangular Straight.step": height 339.58, standoff -124.98, extent 746.86,-53.14 853.16,53.16
3D body "User Library-HDR1X1 Rectangular Straight.step": height 339.58, standoff -124.98, extent 846.86,-53.14 953.16,53.16

## PINHEAD_2.54mm_2x2 [mil]
pads (4):
  rect 60x60 hole 40: 1(0,0)
  round 60 hole 40: 2(0,100) 3(100,0) 4(100,100)
Top Overlay:
  lines w7.87: -50,50 50,50 ; -50,50 -50,-50 50,-50 ; -50,50 -50,150 50,150 ; -50,50 50,50 ; 50,-50 50,50 ; 50,-50 50,50 ; 50,-50 150,-50 150,150 50,150 ; 50,50 150,50 50,50 ; 50,50 50,150 ; 50,50 50,150
3D body "User Library-HDR1X1 Rectangular Straight.step": height 339.58, standoff -124.98, extent -53.14,-53.14 53.16,53.16
3D body "User Library-HDR1X1 Rectangular Straight.step": height 339.58, standoff -124.98, extent 46.86,-53.14 153.16,53.16
3D body "User Library-HDR1X1 Rectangular Straight.step": height 339.58, standoff -124.98, extent 46.86,46.86 153.16,153.16
3D body "User Library-HDR1X1 Rectangular Straight.step": height 339.58, standoff -124.98, extent -53.14,46.86 53.16,153.16